# EAGLE library part 418121160803 (library Eagle_Wuerth_Elektronik_Switch)
WS-IC-2.54 mm small compact SMD Dip Switch with top tape,6 pins,3 poles
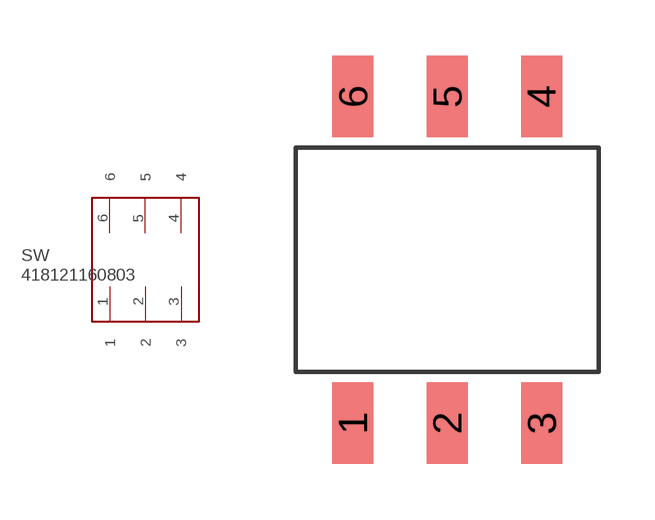
[diagram p30: symbol with the pads of 418121160803; footprint 418121160803]

Designator prefix SW

## 418121160803  [418121160803]
1  1
2  2
3  3
4  4
5  5
6  6

## Footprint 418121160803 (pad centres in mm)
WS-IC-2.54 mm small compact SMD Dip Switch with top tape,6 pins,3 poles
smd 1.1 x 2.2: 1 0,-4.4; 2 2.54,-4.4; 3 5.08,-4.4; 4 5.08,4.4; 5 2.54,4.4; 6 0,4.4